# Altium schematic symbol library AMG8854.SchLib: 1 symbol
Pins are listed as number, name and electrical type; pins without a type are passive.

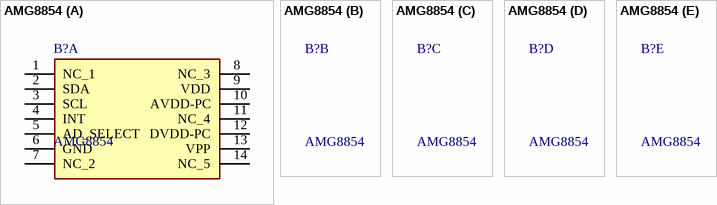
[diagram p0: symbol AMG8854]

## AMG8854
designator B?
Product: Infrared Array Sensor Grid-EYE, Series/Type: AMG88xx (High performance type), Number of pixel: 64 (Vertical 8 x Horizontal 8 Matrix), Operating voltage (DC) (V): 5, Viewing angle (): 60, Amplification factor: Low gain, Mounting form: Surface Mount Type; Manufacturer_Name: Panasonic; Geometry.Height: 4.3mm; Mouser Part Number: 667-AMG8854; Mouser Price/Stock: https://www.mouser.co.uk/ProductDetail/Panasonic/AMG8854?qs=sSYV1F9c5cGiWvzHDbpBOw%3D%3D; Manufacturer_Part_Number: AMG8854; Datasheet Link: https://industrial.panasonic.com/cdbs/www-data/pdf/ADI8000/ADI8000C66.pdf
footprint AMG8854
part A pins: 1 NC_1, 2 SDA, 3 SCL, 4 INT, 5 AD_SELECT, 6 GND, 7 NC_2, 8 NC_3, 9 VDD, 10 AVDD-PC, 11 NC_4, 12 DVDD-PC, 13 VPP, 14 NC_5